# Altium schematic symbol library op-amp-d_1.Schlib: 1 symbol
Pins are listed as number, name and electrical type; pins without a type are passive.

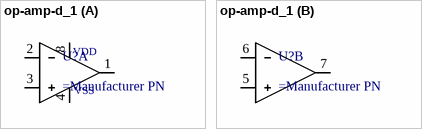
[diagram p0: symbol op-amp-d_1]

## op-amp-d_1
designator U?
Dual Op Amp, Generic
part A pins: 1, 2, 3, 4, 8
part B pins: 5, 6, 7
part A text: VDD; VSS